# EAGLE library part N25Q128A (library prj-hdmi)
128Mb, 3V, Multiple I/O Serial Flash Memory
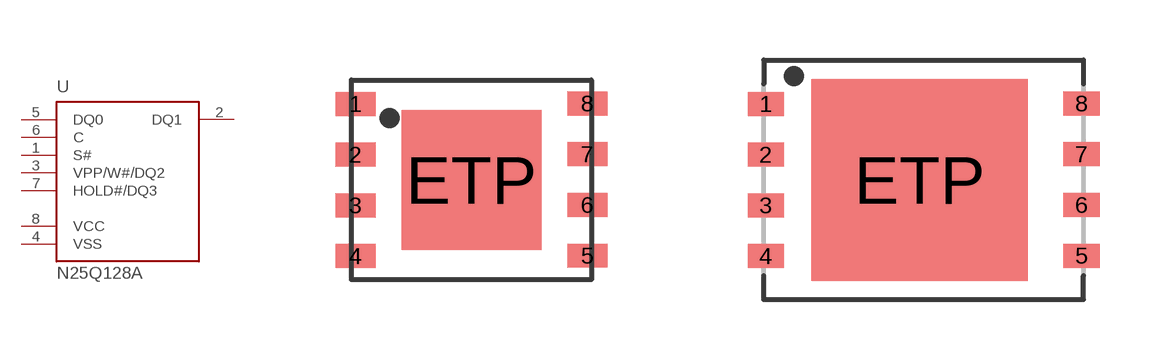
[diagram p7: symbol with the pads of V-PDFN-8_6X5; footprints V-PDFN-8_6X5, V-PDFN-8_8X6]

Designator prefix -

## N25Q128AF7  [V-PDFN-8_6X5]
1  S#  in
2  DQ1
3  VPP/W#/DQ2
4  VSS  pwr
5  DQ0
6  C  in
7  HOLD#/DQ3
8  VCC  pwr

## N25Q128AF8  [V-PDFN-8_8X6]
Pads as for V-PDFN-8_6X5

## Footprint V-PDFN-8_6X5 (pad centres in mm)
smd 1 x 0.6: 1 -2.9,1.9; 2 -2.9,0.63; 3 -2.9,-0.64; 4 -2.9,-1.91; 5 2.9,-1.9; 6 2.9,-0.63; 7 2.9,0.64; 8 2.9,1.91
smd 3.5 x 3.5: ETP 0,0

## Footprint V-PDFN-8_8X6 (pad centres in mm)
smd 0.9 x 0.6: 1 -3.85,1.9; 2 -3.85,0.63; 3 -3.85,-0.64; 4 -3.85,-1.91; 5 4.05,-1.9; 6 4.05,-0.63; 7 4.05,0.64; 8 4.05,1.91
smd 5.41 x 5.05: ETP 0,0